# Altium footprint library E01-2G4M27SX-LIB.PcbLib: 1 footprints
Each footprint in its own frame and in the unit in brackets; x right, y up, seen from the top. Pads: shape width x height; smd on the part's side, far side on the other; paste and mask are expansions set on the pad; w line width, h text height; cw(c..) or ccw(c..) is an arc to the next point about the centre after c.
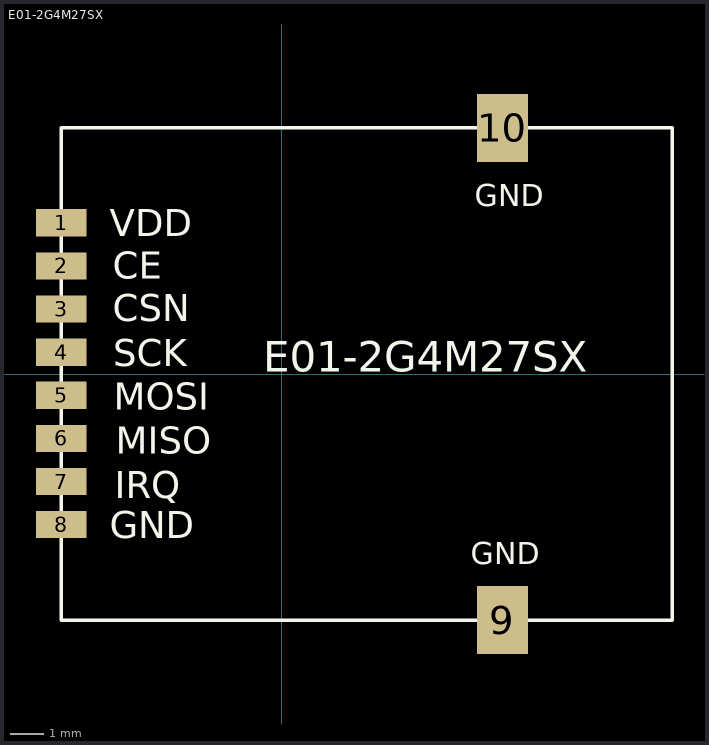
[diagram p0: the footprint, top view; thin cyan lines are the x and y axes]

## E01-2G4M27SX [mm] "23*14mm-S"
pads (10):
  rect 1.5x0.8 smd: 1(-6.497,4.453) 2(-6.497,3.183) 3(-6.497,1.913) 4(-6.497,0.643) 5(-6.497,-0.627) 6(-6.497,-1.897) 7(-6.497,-3.167) 8(-6.497,-4.437)
  rect 1.5x2 smd: 9(6.497,-7.25) 10(6.497,7.25)
Top Overlay:
  lines w0.1: -6.503,-7.25 -6.503,7.25 11.497,7.25 11.497,-7.25 -6.503,-7.25
  text "GND" at 5.562,-5.599 h0.65
  text "GND" at -5.068,-4.84 h0.8
  text "IRQ" at -4.918,-3.66 h0.8
  text "MISO" at -4.898,-2.35 h0.8
  text "MOSI" at -4.948,-1.05 h0.8
  text "SCK" at -4.968,0.23 h0.8
  text "CSN" at -4.988,1.55 h0.8
  text "CE" at -4.988,2.8 h0.8
  text "GND" at 5.689,4.942 h0.65
  text "VDD" at -5.068,4.06 h0.8
  text "E01-2G4M27SX" at -0.543,0.06 h0.9